# Altium integrated library Linx Technologies RF Module.IntLib: 34 symbols
Pins are listed as number, name and electrical type; pins without a type are passive.

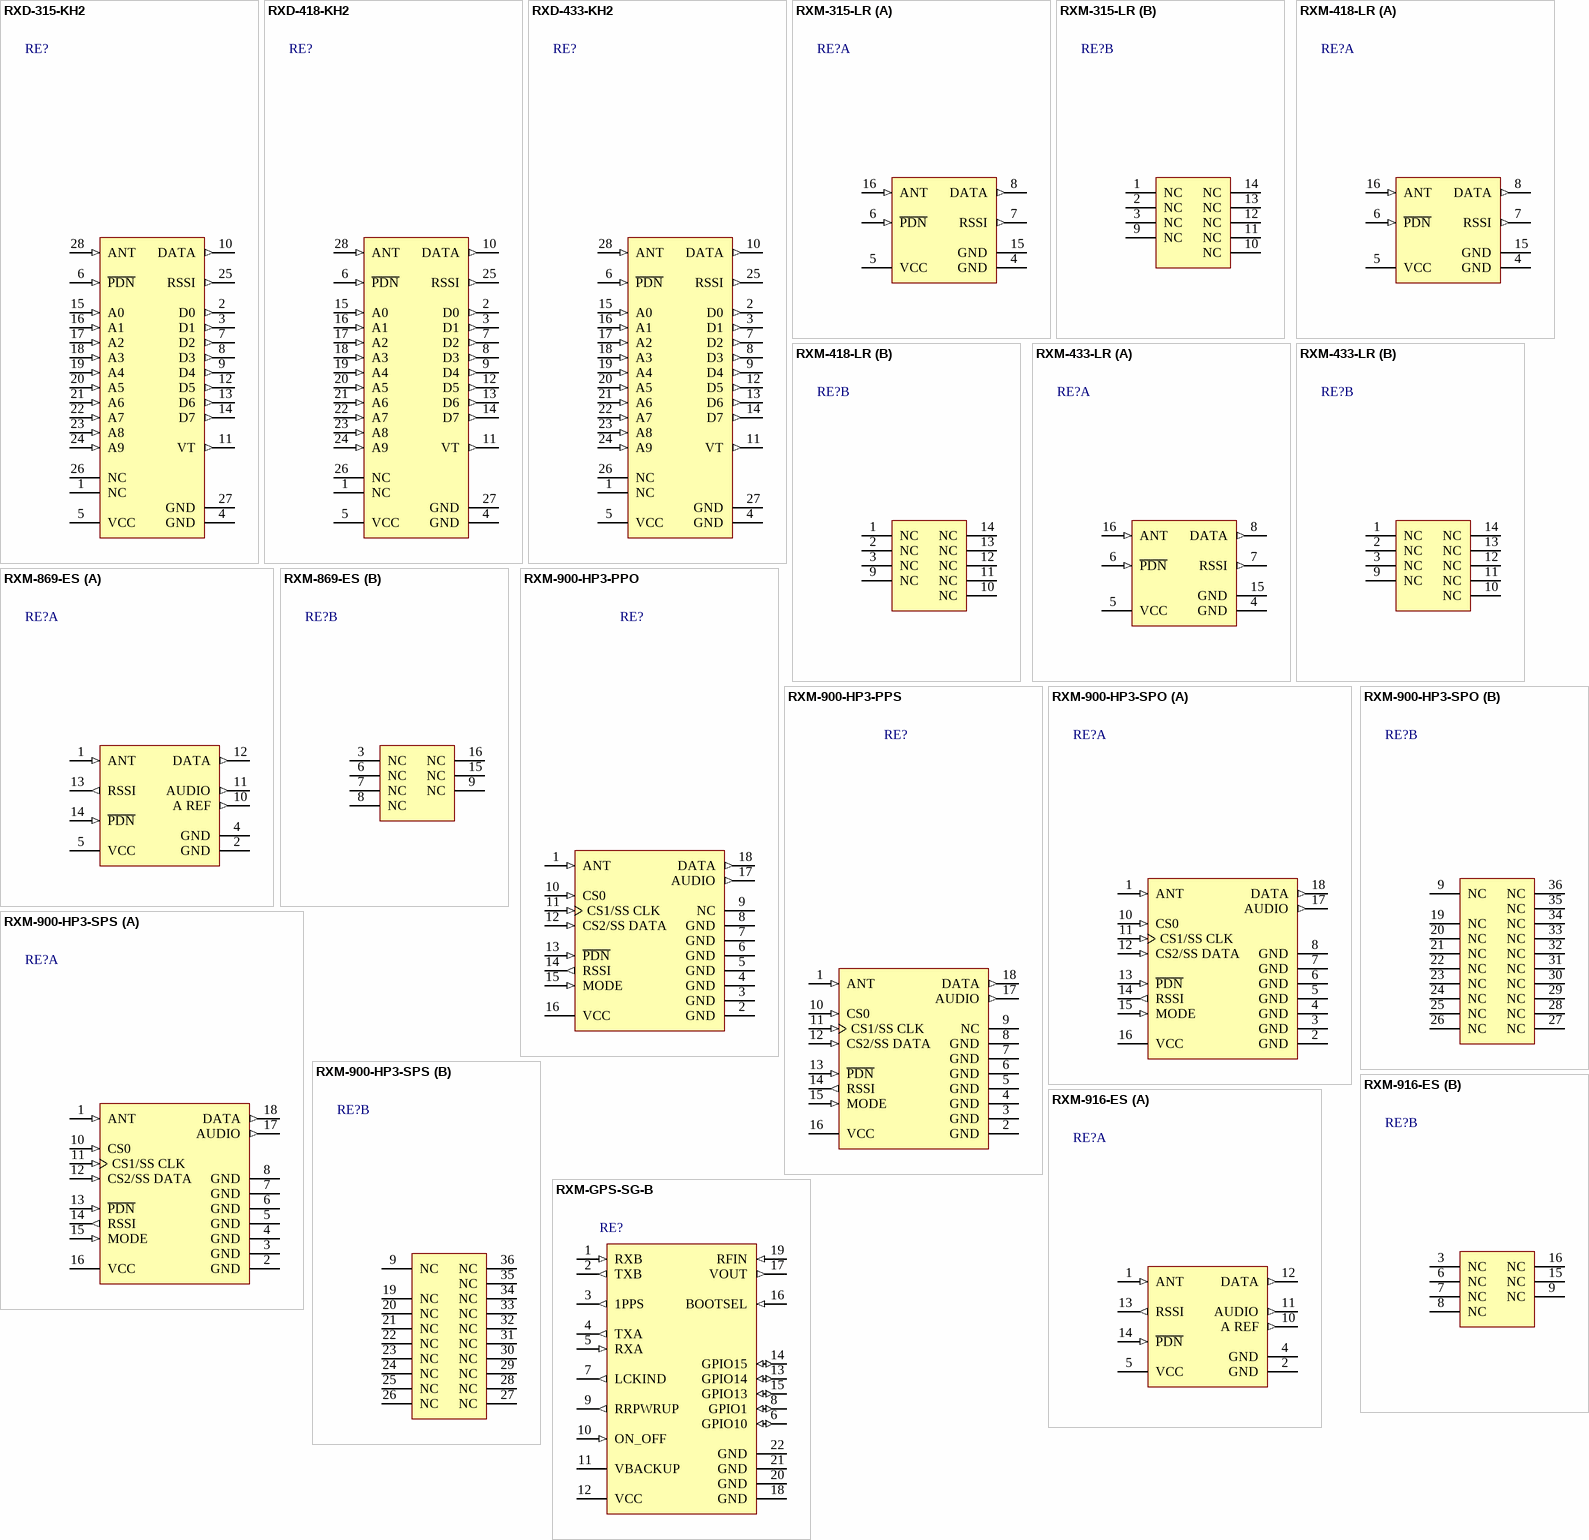
[diagram p0: symbols RXD-315-KH2 to RXM-GPS-SG-B]

## RXD-315-KH2
designator RE?
RF Receiver with Integrated Decoder Module, KH2 Series, 315MHz, SMD; PCB_Layout: Pads complies with manufacturer's recommendation.; DatasheetVersion: 28/01/2008; PackageVersion: 28/01/2008; PackageReference: LMD0.63-28; PackageDescription: RF Module, KH2 Series, SM, 28-Lead, 36.3 x 16 x 4.57 mm Body; ComponentLink1Description: Manufacturer URL; ComponentLink1URL: http://www.linxtechnologies.com/; ComponentLink2Description: Datasheet; ComponentLink2URL: http://www.linxtechnologies.com/Documents/RXD-xxx-KH2_Data_Guide.pdf
footprint LMD0.63-28 (LINX MODULE DIP, 0.63", 28 PINS)
footprint LMD0.63-28 (SMD 28-Lead, Body 36.3x16x4.57mm, Pitch 2.54mm)
pins: 1 NC, 2 D0 (out), 3 D1 (out), 4 GND (power), 5 VCC (power), 6 ~{PDN} (in), 7 D2 (out), 8 D3 (out), 9 D4 (out), 10 DATA (out), 11 VT (out), 12 D5 (out), 13 D6 (out), 14 D7 (out), 15 A0 (in), 16 A1 (in), 17 A2 (in), 18 A3 (in), 19 A4 (in), 20 A5 (in), 21 A6 (in), 22 A7 (in), 23 A8 (in), 24 A9 (in), 25 RSSI (out), 26 NC, 27 GND (power), 28 ANT (in)

## RXD-418-KH2
designator RE?
RF Receiver with Integrated Decoder Module, KH2 Series, 418MHz, SMD; PCB_Layout: Pads complies with manufacturer's recommendation.; DatasheetVersion: 28/01/2008; PackageVersion: 28/01/2008; PackageReference: LMD0.63-28; PackageDescription: RF Module, KH2 Series, SM, 28-Lead, 36.3 x 16 x 4.57 mm Body; ComponentLink1Description: Manufacturer URL; ComponentLink1URL: http://www.linxtechnologies.com/; ComponentLink2Description: Datasheet; ComponentLink2URL: http://www.linxtechnologies.com/Documents/RXD-xxx-KH2_Data_Guide.pdf
footprint LMD0.63-28 (LINX MODULE DIP, 0.63", 28 PINS)
footprint LMD0.63-28 (SMD 28-Lead, Body 36.3x16x4.57mm, Pitch 2.54mm)
pins: 1 NC, 2 D0 (out), 3 D1 (out), 4 GND (power), 5 VCC (power), 6 ~{PDN} (in), 7 D2 (out), 8 D3 (out), 9 D4 (out), 10 DATA (out), 11 VT (out), 12 D5 (out), 13 D6 (out), 14 D7 (out), 15 A0 (in), 16 A1 (in), 17 A2 (in), 18 A3 (in), 19 A4 (in), 20 A5 (in), 21 A6 (in), 22 A7 (in), 23 A8 (in), 24 A9 (in), 25 RSSI (out), 26 NC, 27 GND (power), 28 ANT (in)

## RXD-433-KH2
designator RE?
RF Receiver with Integrated Decoder Module, KH2 Series, 433MHz, SMD; PCB_Layout: Pads complies with manufacturer's recommendation.; DatasheetVersion: 28/01/2008; PackageVersion: 28/01/2008; PackageReference: LMD0.63-28; PackageDescription: RF Module, KH2 Series, SM, 28-Lead, 36.3 x 16 x 4.57 mm Body; ComponentLink1Description: Manufacturer URL; ComponentLink1URL: http://www.linxtechnologies.com/; ComponentLink2Description: Datasheet; ComponentLink2URL: http://www.linxtechnologies.com/Documents/RXD-xxx-KH2_Data_Guide.pdf
footprint LMD0.63-28 (LINX MODULE DIP, 0.63", 28 PINS)
footprint LMD0.63-28 (SMD 28-Lead, Body 36.3x16x4.57mm, Pitch 2.54mm)
pins: 1 NC, 2 D0 (out), 3 D1 (out), 4 GND (power), 5 VCC (power), 6 ~{PDN} (in), 7 D2 (out), 8 D3 (out), 9 D4 (out), 10 DATA (out), 11 VT (out), 12 D5 (out), 13 D6 (out), 14 D7 (out), 15 A0 (in), 16 A1 (in), 17 A2 (in), 18 A3 (in), 19 A4 (in), 20 A5 (in), 21 A6 (in), 22 A7 (in), 23 A8 (in), 24 A9 (in), 25 RSSI (out), 26 NC, 27 GND (power), 28 ANT (in)

## RXM-315-LR
designator RE?
RF Receiver Module, Long Range, LR Series, 315MHz, SMD; PCB_Layout: Pads complies with manufacturer's recommendation.; DatasheetVersion: 15/08/2008; PackageVersion: 15/08/2008; PackageReference: LMD0.63-16; PackageDescription: RF Module, ES Series, SM, 16-Lead, 20.63 x 16 x 3.18 mm Body; ComponentLink1Description: Manufacturer URL; ComponentLink1URL: http://www.linxtechnologies.com/; ComponentLink2Description: Datasheet; ComponentLink2URL: http://www.linxtechnologies.com/Documents/RXM-xxx-LR_Data_Guide.pdf
footprint LMD0.63-16 (LINX MODULE DIP, 0.63", 16 PINS)
footprint LMD0.63-16 (SMD 16-Lead, Body 20.63x16x3.18mm, Pitch 2.54mm)
part A pins: 4 GND (power), 5 VCC (power), 6 ~{PDN} (in), 7 RSSI (out), 8 DATA (out), 15 GND (power), 16 ANT (in)
part B pins: 1 NC, 2 NC, 3 NC, 9 NC, 10 NC, 11 NC, 12 NC, 13 NC, 14 NC

## RXM-418-LR
designator RE?
RF Receiver Module, Long Range, LR Series, 418MHz, SMD; PCB_Layout: Pads complies with manufacturer's recommendation.; DatasheetVersion: 15/08/2008; PackageVersion: 15/08/2008; PackageReference: LMD0.63-16; PackageDescription: RF Module, ES Series, SM, 16-Lead, 20.63 x 16 x 3.18 mm Body; ComponentLink1Description: Manufacturer URL; ComponentLink1URL: http://www.linxtechnologies.com/; ComponentLink2Description: Datasheet; ComponentLink2URL: http://www.linxtechnologies.com/Documents/RXM-xxx-LR_Data_Guide.pdf
footprint LMD0.63-16 (LINX MODULE DIP, 0.63", 16 PINS)
footprint LMD0.63-16 (SMD 16-Lead, Body 20.63x16x3.18mm, Pitch 2.54mm)
part A pins: 4 GND (power), 5 VCC (power), 6 ~{PDN} (in), 7 RSSI (out), 8 DATA (out), 15 GND (power), 16 ANT (in)
part B pins: 1 NC, 2 NC, 3 NC, 9 NC, 10 NC, 11 NC, 12 NC, 13 NC, 14 NC

## RXM-433-LR
designator RE?
RF Receiver Module, Long Range, LR Series, 433MHz, SMD; PCB_Layout: Pads complies with manufacturer's recommendation.; DatasheetVersion: 15/08/2008; PackageVersion: 15/08/2008; PackageReference: LMD0.63-16; PackageDescription: RF Module, ES Series, SM, 16-Lead, 20.63 x 16 x 3.18 mm Body; ComponentLink1Description: Manufacturer URL; ComponentLink1URL: http://www.linxtechnologies.com/; ComponentLink2Description: Datasheet; ComponentLink2URL: http://www.linxtechnologies.com/Documents/RXM-xxx-LR_Data_Guide.pdf
footprint LMD0.63-16 (LINX MODULE DIP, 0.63", 16 PINS)
footprint LMD0.63-16 (SMD 16-Lead, Body 20.63x16x3.18mm, Pitch 2.54mm)
part A pins: 4 GND (power), 5 VCC (power), 6 ~{PDN} (in), 7 RSSI (out), 8 DATA (out), 15 GND (power), 16 ANT (in)
part B pins: 1 NC, 2 NC, 3 NC, 9 NC, 10 NC, 11 NC, 12 NC, 13 NC, 14 NC

## RXM-869-ES
designator RE?
RF Receiver Module, Digital and Analog, ES Series, 869MHz, SMD; PCB_Layout: Pads complies with manufacturer's recommendation.; DatasheetVersion: 28/01/2008; PackageVersion: 28/01/2008; PackageReference: LMD0.63-16; PackageDescription: RF Module, ES Series, SM, 16-Lead, 20.63 x 16 x 3.18 mm Body; ComponentLink1Description: Manufacturer URL; ComponentLink1URL: http://www.linxtechnologies.com/; ComponentLink2Description: Datasheet; ComponentLink2URL: http://www.linxtechnologies.com/Documents/RXM-xxx-ES_Data_Guide.pdf
footprint LMD0.63-16 (LINX MODULE DIP, 0.63", 16 PINS)
footprint LMD0.63-16 (SMD 16-Lead, Body 20.63x16x3.18mm, Pitch 2.54mm)
part A pins: 1 ANT (in), 2 GND (power), 4 GND (power), 5 VCC (power), 10 A REF (out), 11 AUDIO (out), 12 DATA (out), 13 RSSI (out), 14 ~{PDN} (in)
part B pins: 3 NC, 6 NC, 7 NC, 8 NC, 9 NC, 15 NC, 16 NC

## RXM-900-HP3-PPO
designator RE?
Multiple Channel RF Receiver Module, HP3 Series, 8 Parallel Channels, SIP; PCB_Layout: Pads complies with manufacturer's recommendation.; DatasheetVersion: 28/01/2008; PackageVersion: 28/01/2008; PackageReference: SIP-18; PackageDescription: RF Module, HP3 Series, Thru-Hole, 18-Lead, 49.3 x 6.0 x 19.9 mm Body; ComponentLink1Description: Manufacturer URL; ComponentLink1URL: http://www.linxtechnologies.com/; ComponentLink2Description: Datasheet; ComponentLink2URL: http://www.linxtechnologies.com/Documents/RXM-900-HP3-xxx_Data_Guide.pdf
footprint SIP-18 (18 PIN SIP HEADER)
footprint SIP-18 (SIP, 18-Lead, 49.3x6.0x19.9mm Body, Pitch 2.54mm)
pins: 1 ANT (in), 2 GND (power), 3 GND (power), 4 GND (power), 5 GND (power), 6 GND (power), 7 GND (power), 8 GND (power), 9 NC, 10 CS0 (in), 11 CS1/SS CLK (in), 12 CS2/SS DATA (in), 13 ~{PDN} (in), 14 RSSI (out), 15 MODE (in), 16 VCC (power), 17 AUDIO (out), 18 DATA (out)

## RXM-900-HP3-PPS
designator RE?
Multiple Channel RF Receiver Module, HP3 Series, 8 Parallel/100 Serial Channels, SIP; PCB_Layout: Pads complies with manufacturer's recommendation.; DatasheetVersion: 28/01/2008; PackageVersion: 28/01/2008; PackageReference: SIP-18; PackageDescription: RF Module, HP3 Series, Thru-Hole, 18-Lead, 49.3 x 6.0 x 19.9 mm Body; ComponentLink1Description: Manufacturer URL; ComponentLink1URL: http://www.linxtechnologies.com/; ComponentLink2Description: Datasheet; ComponentLink2URL: http://www.linxtechnologies.com/Documents/RXM-900-HP3-xxx_Data_Guide.pdf
footprint SIP-18 (18 PIN SIP HEADER)
footprint SIP-18 (SIP, 18-Lead, 49.3x6.0x19.9mm Body, Pitch 2.54mm)
pins: 1 ANT (in), 2 GND (power), 3 GND (power), 4 GND (power), 5 GND (power), 6 GND (power), 7 GND (power), 8 GND (power), 9 NC, 10 CS0 (in), 11 CS1/SS CLK (in), 12 CS2/SS DATA (in), 13 ~{PDN} (in), 14 RSSI (out), 15 MODE (in), 16 VCC (power), 17 AUDIO (out), 18 DATA (out)

## RXM-900-HP3-SPO
designator RE?
Multiple Channel RF Receiver Module, HP3 Series, 8 Parallel Channels, SMD; PCB_Layout: Pads complies with manufacturer's recommendation.; DatasheetVersion: 28/01/2008; PackageVersion: 28/01/2008; PackageReference: LMD0.75-36; PackageDescription: RF Module, HP3 Series, SM, 36-Lead, 49.6 x 19.1 x 4.9 mm Body; ComponentLink1Description: Manufacturer URL; ComponentLink1URL: http://www.linxtechnologies.com/; ComponentLink2Description: Datasheet; ComponentLink2URL: http://www.linxtechnologies.com/Documents/RXM-900-HP3-xxx_Data_Guide.pdf
footprint LMD0.75-36 (LINX MODULE DIP, 0.75", 36 PINS)
footprint LMD0.75-36 (SMD, 36-Lead, 49.6x19.1x4.9mm Body, Pitch 2.54mm)
part A pins: 1 ANT (in), 2 GND (power), 3 GND (power), 4 GND (power), 5 GND (power), 6 GND (power), 7 GND (power), 8 GND (power), 10 CS0 (in), 11 CS1/SS CLK (in), 12 CS2/SS DATA (in), 13 ~{PDN} (in), 14 RSSI (out), 15 MODE (in), 16 VCC (power), 17 AUDIO (out), 18 DATA (out)
part B pins: 9 NC, 19 NC, 20 NC, 21 NC, 22 NC, 23 NC, 24 NC, 25 NC, 26 NC, 27 NC, 28 NC, 29 NC, 30 NC, 31 NC, 32 NC, 33 NC, 34 NC, 35 NC, 36 NC

## RXM-900-HP3-SPS
designator RE?
Multiple Channel RF Receiver Module, HP3 Series, 8 Parallel/100 Serial Channels, SMD; PCB_Layout: Pads complies with manufacturer's recommendation.; DatasheetVersion: 28/01/2008; PackageVersion: 28/01/2008; PackageReference: LMD0.75-36; PackageDescription: RF Module, HP3 Series, SM, 36-Lead, 49.6 x 19.1 x 4.9 mm Body; ComponentLink1Description: Manufacturer URL; ComponentLink1URL: http://www.linxtechnologies.com/; ComponentLink2Description: Datasheet; ComponentLink2URL: http://www.linxtechnologies.com/Documents/RXM-900-HP3-xxx_Data_Guide.pdf
footprint LMD0.75-36 (LINX MODULE DIP, 0.75", 36 PINS)
footprint LMD0.75-36 (SMD, 36-Lead, 49.6x19.1x4.9mm Body, Pitch 2.54mm)
part A pins: 1 ANT (in), 2 GND (power), 3 GND (power), 4 GND (power), 5 GND (power), 6 GND (power), 7 GND (power), 8 GND (power), 10 CS0 (in), 11 CS1/SS CLK (in), 12 CS2/SS DATA (in), 13 ~{PDN} (in), 14 RSSI (out), 15 MODE (in), 16 VCC (power), 17 AUDIO (out), 18 DATA (out)
part B pins: 9 NC, 19 NC, 20 NC, 21 NC, 22 NC, 23 NC, 24 NC, 25 NC, 26 NC, 27 NC, 28 NC, 29 NC, 30 NC, 31 NC, 32 NC, 33 NC, 34 NC, 35 NC, 36 NC

## RXM-916-ES
designator RE?
RF Receiver Module, Digital and Analog, ES Series, 916MHz, SMD; PCB_Layout: Pads complies with manufacturer's recommendation.; DatasheetVersion: 28/01/2008; PackageVersion: 28/01/2008; PackageReference: LMD0.63-16; PackageDescription: RF Module, ES Series, SM, 16-Lead, 20.63 x 16 x 3.18 mm Body; ComponentLink1Description: Manufacturer URL; ComponentLink1URL: http://www.linxtechnologies.com/; ComponentLink2Description: Datasheet; ComponentLink2URL: http://www.linxtechnologies.com/Documents/RXM-xxx-ES_Data_Guide.pdf
footprint LMD0.63-16 (LINX MODULE DIP, 0.63", 16 PINS)
footprint LMD0.63-16 (SMD 16-Lead, Body 20.63x16x3.18mm, Pitch 2.54mm)
part A pins: 1 ANT (in), 2 GND (power), 4 GND (power), 5 VCC (power), 10 A REF (out), 11 AUDIO (out), 12 DATA (out), 13 RSSI (out), 14 ~{PDN} (in)
part B pins: 3 NC, 6 NC, 7 NC, 8 NC, 9 NC, 15 NC, 16 NC

## RXM-GPS-SG-B
designator RE?
High-Performance GPS Receiver Module, SG Series, SMD, Bulk; PCB_Layout: Complies with manufacturer's recommendation.; DatasheetVersion: 28/06/2010; PackageVersion: 28/06/2010; PackageReference: RXM-GPS-SG; PackageDescription: RF Module, SG Series, SM, 22-Lead, 15 x 13 x 2.2 mm Body; ComponentLink1Description: Manufacturer URL; ComponentLink1URL: http://www.linxtechnologies.com/; ComponentLink2Description: Datasheet; ComponentLink2URL: http://www.linxtechnologies.com/Documents/RXM-GPS-SG_Data_Guide.pdf
footprint RXM-GPS-SG (SG SERIES GPS RECEIVER)
footprint RXM-GPS-SG (SMD 22-Lead, Body 15x13x2.2mm, Pitch 1.27mm)
pins: 1 RXB (in), 2 TXB (out), 3 1PPS (out), 4 TXA (out), 5 RXA (in), 6 GPIO10 (io), 7 LCKIND (out), 8 GPIO1 (io), 9 RRPWRUP (out), 10 ON_OFF (in), 11 VBACKUP (power), 12 VCC (power), 13 GPIO14 (io), 14 GPIO15 (io), 15 GPIO13 (io), 16 BOOTSEL (in), 17 VOUT (out), 18 GND, 19 RFIN (in), 20 GND (power), 21 GND (power), 22 GND (power)

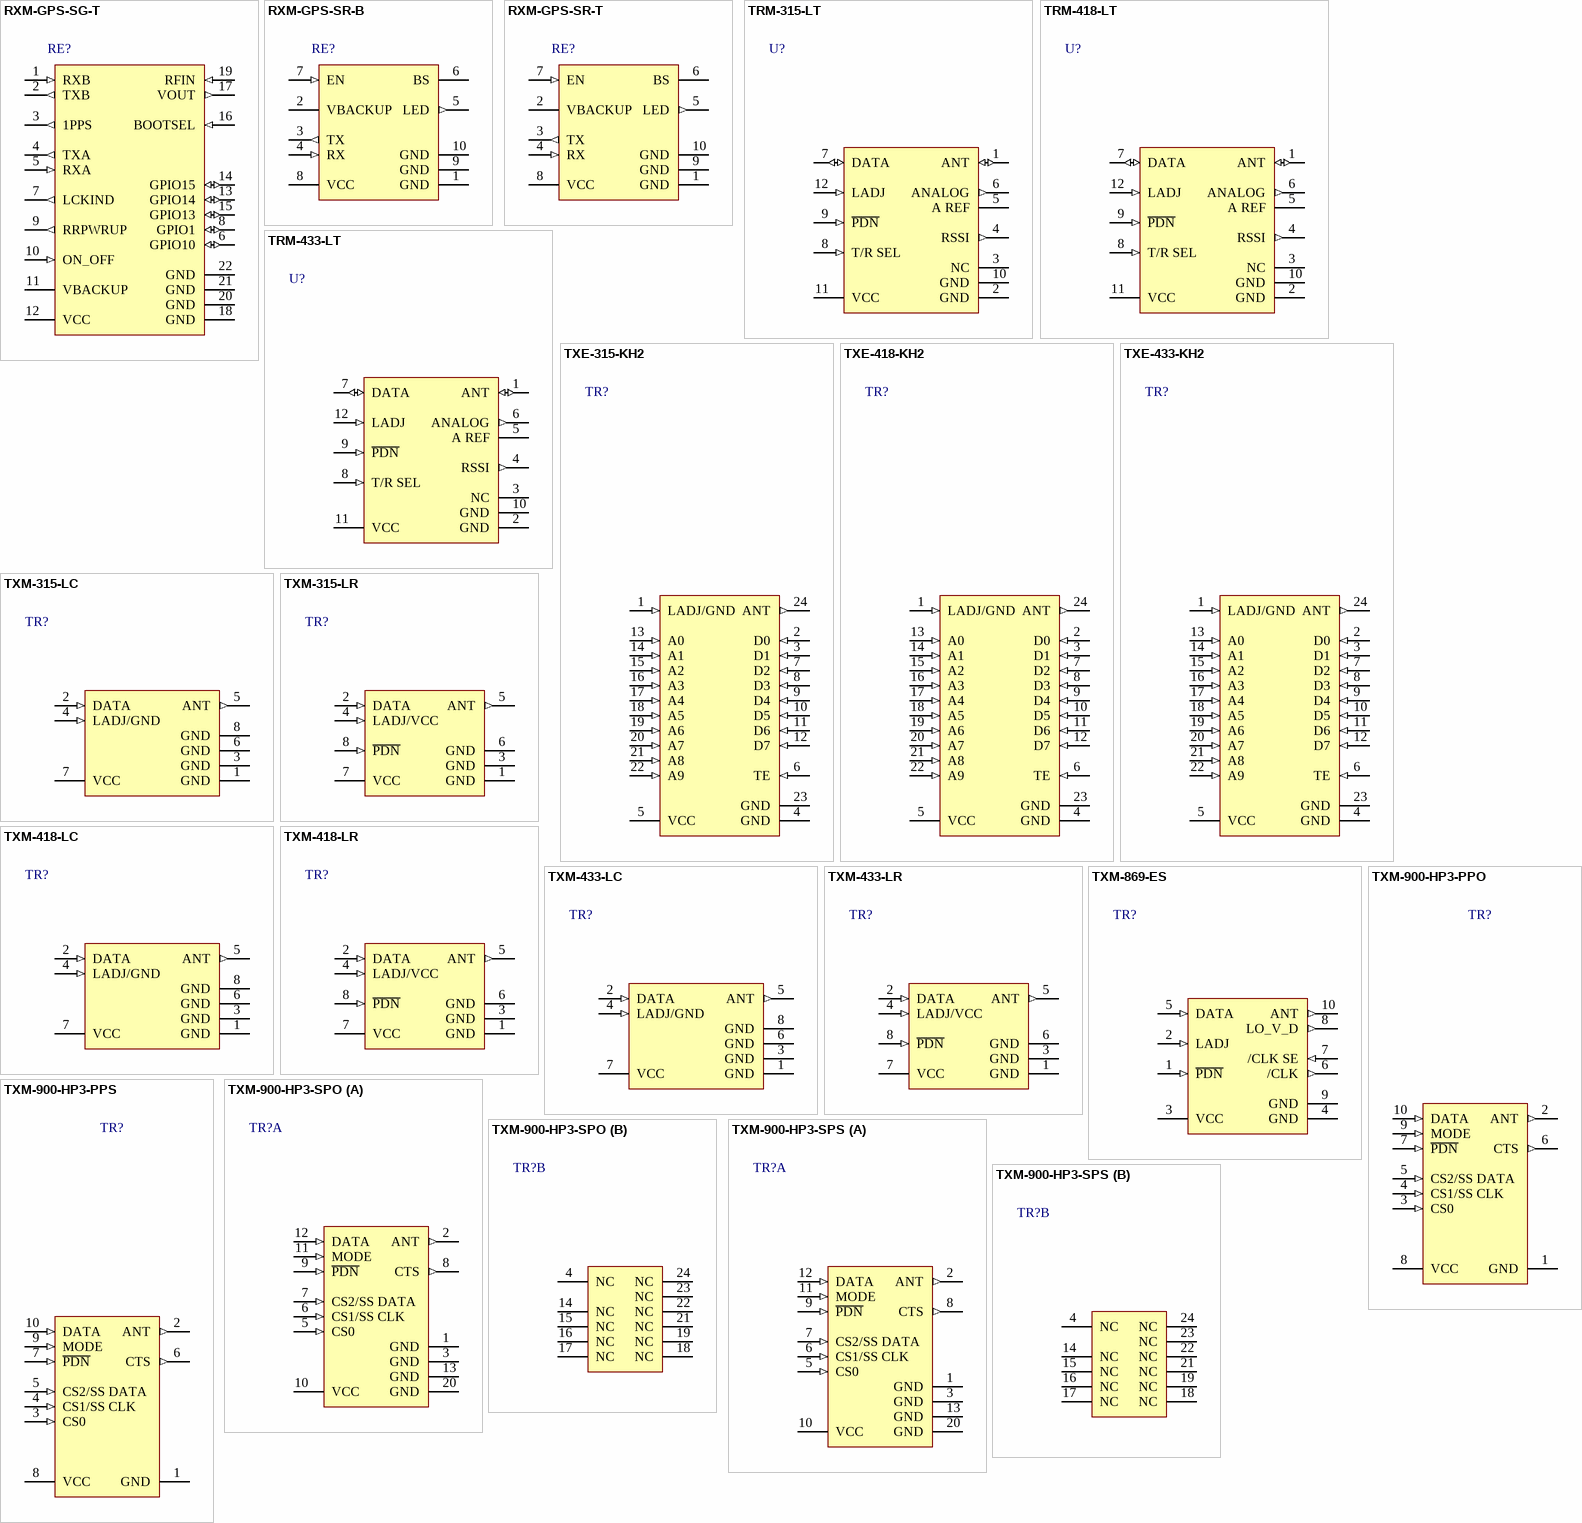
[diagram p1: symbols RXM-GPS-SG-T to TXM-900-HP3-SPS]

## RXM-GPS-SG-T
designator RE?
High-Performance GPS Receiver Module, SG Series, SMD, Tape and Reel; PCB_Layout: Complies with manufacturer's recommendation.; DatasheetVersion: 28/06/2010; PackageVersion: 28/06/2010; PackageReference: RXM-GPS-SG; PackageDescription: RF Module, SG Series, SM, 22-Lead, 15 x 13 x 2.2 mm Body; ComponentLink1Description: Manufacturer URL; ComponentLink1URL: http://www.linxtechnologies.com/; ComponentLink2Description: Datasheet; ComponentLink2URL: http://www.linxtechnologies.com/Documents/RXM-GPS-SG_Data_Guide.pdf
footprint RXM-GPS-SG (SG SERIES GPS RECEIVER)
footprint RXM-GPS-SG (SMD 22-Lead, Body 15x13x2.2mm, Pitch 1.27mm)
pins: 1 RXB (in), 2 TXB (out), 3 1PPS (out), 4 TXA (out), 5 RXA (in), 6 GPIO10 (io), 7 LCKIND (out), 8 GPIO1 (io), 9 RRPWRUP (out), 10 ON_OFF (in), 11 VBACKUP (power), 12 VCC (power), 13 GPIO14 (io), 14 GPIO15 (io), 15 GPIO13 (io), 16 BOOTSEL (in), 17 VOUT (out), 18 GND, 19 RFIN (in), 20 GND (power), 21 GND (power), 22 GND (power)

## RXM-GPS-SR-B
designator RE?
High-Performance GPS Receiver Module, Integral Antenna, SR Series, SMD, Bulk; Note1: No traces or copper under the module on the same layer as the module; DatasheetVersion: 20/07/2010; PackageVersion: 20/07/2010; PackageReference: RXM-GPS-SR; PackageDescription: GPS Module with Antenna, SR Series, SM, 10-Lead, 25 x 12.4 x 2.2 mm Body; ComponentLink1Description: Manufacturer URL; ComponentLink1URL: http://www.linxtechnologies.com/; ComponentLink2Description: Datasheet; ComponentLink2URL: http://www.linxtechnologies.com/Documents/RXM-GPS-SR_Data_Guide.pdf
footprint RXM-GPS-SR (SR SERIES GPS MODULE)
footprint RXM-GPS-SR (SMD 10-Lead, Body 25x12.4x2.2mm, Pitch 2.2mm, plus On-Board Antenna)
pins: 1 GND (power), 2 VBACKUP (power), 3 TX (out), 4 RX (in), 5 LED (out), 6 BS, 7 EN (in), 8 VCC (power), 9 GND (power), 10 GND (power)

## RXM-GPS-SR-T
designator RE?
High-Performance GPS Receiver Module, Integral Antenna, SR Series, SMD, Tape and Reel; Note1: No traces or copper under the module on the same layer as the module; DatasheetVersion: 20/07/2010; PackageVersion: 20/07/2010; PackageReference: RXM-GPS-SR; PackageDescription: GPS Module with Antenna, SR Series, SM, 10-Lead, 25 x 12.4 x 2.2 mm Body; ComponentLink1Description: Manufacturer URL; ComponentLink1URL: http://www.linxtechnologies.com/; ComponentLink2Description: Datasheet; ComponentLink2URL: http://www.linxtechnologies.com/Documents/RXM-GPS-SR_Data_Guide.pdf
footprint RXM-GPS-SR (SR SERIES GPS MODULE)
footprint RXM-GPS-SR (SMD 10-Lead, Body 25x12.4x2.2mm, Pitch 2.2mm, plus On-Board Antenna)
pins: 1 GND (power), 2 VBACKUP (power), 3 TX (out), 4 RX (in), 5 LED (out), 6 BS, 7 EN (in), 8 VCC (power), 9 GND (power), 10 GND (power)

## TRM-315-LT
designator U?
Long Range RF Transceiver Module, LT Series, 315MHz, SMD; PCB_Layout: Pads complies with manufacturer's recommendation.; DatasheetVersion: 23/03/2010; PackageVersion: 23/03/2010; PackageReference: LMD0.63-12; PackageDescription: RF Module, LT Series, SM, 12-Lead, 15.73 x 16.0 x 3.18 mm Body; ComponentLink1Description: Manufacturer URL; ComponentLink1URL: http://www.linxtechnologies.com/; ComponentLink2Description: Datasheet; ComponentLink2URL: http://www.linxtechnologies.com/Documents/TRM-xxx-LT_Data_Guide.pdf
footprint LMD0.63-12 (LINX MODULE DIP, 0.63", 12 PINS)
footprint LMD0.63-12 (SMD 12-Lead, Body 15.73x16.0x3.18mm, Pitch 2.54mm)
pins: 1 ANT (io), 2 GND (power), 3 NC, 4 RSSI (out), 5 A REF, 6 ANALOG (out), 7 DATA (io), 8 T/R SEL (in), 9 ~{PDN} (in), 10 GND (power), 11 VCC (power), 12 LADJ (in)

## TRM-418-LT
designator U?
Long Range RF Transceiver Module, LT Series, 418MHz, SMD; PCB_Layout: Pads complies with manufacturer's recommendation.; DatasheetVersion: 23/03/2010; PackageVersion: 23/03/2010; PackageReference: LMD0.63-12; PackageDescription: RF Module, LT Series, SM, 12-Lead, 15.73 x 16.0 x 3.18 mm Body; ComponentLink1Description: Manufacturer URL; ComponentLink1URL: http://www.linxtechnologies.com/; ComponentLink2Description: Datasheet; ComponentLink2URL: http://www.linxtechnologies.com/Documents/TRM-xxx-LT_Data_Guide.pdf
footprint LMD0.63-12 (LINX MODULE DIP, 0.63", 12 PINS)
footprint LMD0.63-12 (SMD 12-Lead, Body 15.73x16.0x3.18mm, Pitch 2.54mm)
pins: 1 ANT (io), 2 GND (power), 3 NC, 4 RSSI (out), 5 A REF, 6 ANALOG (out), 7 DATA (io), 8 T/R SEL (in), 9 ~{PDN} (in), 10 GND (power), 11 VCC (power), 12 LADJ (in)

## TRM-433-LT
designator U?
Long Range RF Transceiver Module, LT Series, 433MHz, SMD; PCB_Layout: Pads complies with manufacturer's recommendation.; DatasheetVersion: 23/03/2010; PackageVersion: 23/03/2010; PackageReference: LMD0.63-12; PackageDescription: RF Module, LT Series, SM, 12-Lead, 15.73 x 16.0 x 3.18 mm Body; ComponentLink1Description: Manufacturer URL; ComponentLink1URL: http://www.linxtechnologies.com/; ComponentLink2Description: Datasheet; ComponentLink2URL: http://www.linxtechnologies.com/Documents/TRM-xxx-LT_Data_Guide.pdf
footprint LMD0.63-12 (LINX MODULE DIP, 0.63", 12 PINS)
footprint LMD0.63-12 (SMD 12-Lead, Body 15.73x16.0x3.18mm, Pitch 2.54mm)
pins: 1 ANT (io), 2 GND (power), 3 NC, 4 RSSI (out), 5 A REF, 6 ANALOG (out), 7 DATA (io), 8 T/R SEL (in), 9 ~{PDN} (in), 10 GND (power), 11 VCC (power), 12 LADJ (in)

## TXE-315-KH2
designator TR?
RF Transmitter with Integrated Encoder Module, KH2 Series, 315MHz, SMD; PCB_Layout: Pads complies with manufacturer's recommendation.; DatasheetVersion: 28/01/2008; PackageVersion: 28/01/2008; PackageReference: LMD0.63-24; PackageDescription: RF Module, KH2 Series, SM, 24-Lead, 31 x 16 x 4.57 mm Body; ComponentLink1Description: Manufacturer URL; ComponentLink1URL: http://www.linxtechnologies.com/; ComponentLink2Description: Datasheet; ComponentLink2URL: http://www.linxtechnologies.com/Documents/TXE-xxx-KH2_Data_Guide.pdf
footprint LMD0.63-24 (LINX MODULE DIP, 0.63", 24 PINS)
footprint LMD0.63-24 (SMD 24-Lead, Body 31x16x4.57mm, Pitch 2.54mm)
pins: 1 LADJ/GND (in), 2 D0 (in), 3 D1 (in), 4 GND (power), 5 VCC (power), 6 TE (in), 7 D2 (in), 8 D3 (in), 9 D4 (in), 10 D5 (in), 11 D6 (in), 12 D7 (in), 13 A0 (in), 14 A1 (in), 15 A2 (in), 16 A3 (in), 17 A4 (in), 18 A5 (in), 19 A6 (in), 20 A7 (in), 21 A8 (in), 22 A9 (in), 23 GND (power), 24 ANT (out)

## TXE-418-KH2
designator TR?
RF Transmitter with Integrated Encoder Module, KH2 Series, 418MHz, SMD; PCB_Layout: Pads complies with manufacturer's recommendation.; DatasheetVersion: 28/01/2008; PackageVersion: 28/01/2008; PackageReference: LMD0.63-24; PackageDescription: RF Module, KH2 Series, SM, 24-Lead, 31 x 16 x 4.57 mm Body; ComponentLink1Description: Manufacturer URL; ComponentLink1URL: http://www.linxtechnologies.com/; ComponentLink2Description: Datasheet; ComponentLink2URL: http://www.linxtechnologies.com/Documents/TXE-xxx-KH2_Data_Guide.pdf
footprint LMD0.63-24 (LINX MODULE DIP, 0.63", 24 PINS)
footprint LMD0.63-24 (SMD 24-Lead, Body 31x16x4.57mm, Pitch 2.54mm)
pins: 1 LADJ/GND (in), 2 D0 (in), 3 D1 (in), 4 GND (power), 5 VCC (power), 6 TE (in), 7 D2 (in), 8 D3 (in), 9 D4 (in), 10 D5 (in), 11 D6 (in), 12 D7 (in), 13 A0 (in), 14 A1 (in), 15 A2 (in), 16 A3 (in), 17 A4 (in), 18 A5 (in), 19 A6 (in), 20 A7 (in), 21 A8 (in), 22 A9 (in), 23 GND (power), 24 ANT (out)

## TXE-433-KH2
designator TR?
RF Transmitter with Integrated Encoder Module, KH2 Series, 433MHz, SMD; PCB_Layout: Pads complies with manufacturer's recommendation.; DatasheetVersion: 28/01/2008; PackageVersion: 28/01/2008; PackageReference: LMD0.63-24; PackageDescription: RF Module, KH2 Series, SM, 24-Lead, 31 x 16 x 4.57 mm Body; ComponentLink1Description: Manufacturer URL; ComponentLink1URL: http://www.linxtechnologies.com/; ComponentLink2Description: Datasheet; ComponentLink2URL: http://www.linxtechnologies.com/Documents/TXE-xxx-KH2_Data_Guide.pdf
footprint LMD0.63-24 (LINX MODULE DIP, 0.63", 24 PINS)
footprint LMD0.63-24 (SMD 24-Lead, Body 31x16x4.57mm, Pitch 2.54mm)
pins: 1 LADJ/GND (in), 2 D0 (in), 3 D1 (in), 4 GND (power), 5 VCC (power), 6 TE (in), 7 D2 (in), 8 D3 (in), 9 D4 (in), 10 D5 (in), 11 D6 (in), 12 D7 (in), 13 A0 (in), 14 A1 (in), 15 A2 (in), 16 A3 (in), 17 A4 (in), 18 A5 (in), 19 A6 (in), 20 A7 (in), 21 A8 (in), 22 A9 (in), 23 GND (power), 24 ANT (out)

## TXM-315-LC
designator TR?
Low Cost RF Transmitter Module, LC Series, 315MHz, SMD; PCB_Layout: Pads complies with manufacturer's recommendation.; DatasheetVersion: 24/02/2009; PackageVersion: 24/02/2009; PackageReference: LMD0.36-8-S; PackageDescription: RF Module, LC Series, SM, 8-Lead, 12.7 x 9.15 x 3.3 mm Body; ComponentLink1Description: Manufacturer URL; ComponentLink1URL: http://www.linxtechnologies.com/; ComponentLink2Description: Datasheet; ComponentLink2URL: http://www.linxtechnologies.com/Documents/TXM-xxx-LC_Data_Guide.pdf
footprint LMD0.36-8-S (LINX MODULE DIP, 0.36", 8 PINS)
footprint LMD0.36-8-S (SMD 8-Lead, Body 12.7x9.15x3.3mm, Pitch 2.54mm)
pins: 1 GND (power), 2 DATA (in), 3 GND (power), 4 LADJ/GND (in), 5 ANT (out), 6 GND (power), 7 VCC (power), 8 GND (power)

## TXM-315-LR
designator TR?
Low Cost RF Transmitter Module, LR Series, 315MHz, SMD; PCB_Layout: Pads complies with manufacturer's recommendation.; DatasheetVersion: 4/03/2010; PackageVersion: 4/03/2010; PackageReference: LMD0.36-8-S; PackageDescription: RF Module, LR Series, SM, 8-Lead, 12.7 x 9.15 x 3.3 mm Body; ComponentLink1Description: Manufacturer URL; ComponentLink1URL: http://www.linxtechnologies.com/; ComponentLink2Description: Datasheet; ComponentLink2URL: http://www.linxtechnologies.com/Documents/TXM-xxx-LR_Data_Guide.pdf
footprint LMD0.36-8-S (LINX MODULE DIP, 0.36", 8 PINS)
footprint LMD0.36-8-S (SMD 8-Lead, Body 12.7x9.15x3.3mm, Pitch 2.54mm)
pins: 1 GND (power), 2 DATA (in), 3 GND (power), 4 LADJ/VCC (in), 5 ANT (out), 6 GND (power), 7 VCC (power), 8 ~{PDN} (in)

## TXM-418-LC
designator TR?
Low Cost RF Transmitter Module, LC Series, 418MHz, SMD; PCB_Layout: Pads complies with manufacturer's recommendation.; DatasheetVersion: 24/02/2009; PackageVersion: 24/02/2009; PackageReference: LMD0.36-8-S; PackageDescription: RF Module, LC Series, SM, 8-Lead, 12.7 x 9.15 x 3.3 mm Body; ComponentLink1Description: Manufacturer URL; ComponentLink1URL: http://www.linxtechnologies.com/; ComponentLink2Description: Datasheet; ComponentLink2URL: http://www.linxtechnologies.com/Documents/TXM-xxx-LC_Data_Guide.pdf
footprint LMD0.36-8-S (LINX MODULE DIP, 0.36", 8 PINS)
footprint LMD0.36-8-S (SMD 8-Lead, Body 12.7x9.15x3.3mm, Pitch 2.54mm)
pins: 1 GND (power), 2 DATA (in), 3 GND (power), 4 LADJ/GND (in), 5 ANT (out), 6 GND (power), 7 VCC (power), 8 GND (power)

## TXM-418-LR
designator TR?
Low Cost RF Transmitter Module, LR Series, 418MHz, SMD; PCB_Layout: Pads complies with manufacturer's recommendation.; DatasheetVersion: 4/03/2010; PackageVersion: 4/03/2010; PackageReference: LMD0.36-8-S; PackageDescription: RF Module, LR Series, SM, 8-Lead, 12.7 x 9.15 x 3.3 mm Body; ComponentLink1Description: Manufacturer URL; ComponentLink1URL: http://www.linxtechnologies.com/; ComponentLink2Description: Datasheet; ComponentLink2URL: http://www.linxtechnologies.com/Documents/TXM-xxx-LR_Data_Guide.pdf
footprint LMD0.36-8-S (LINX MODULE DIP, 0.36", 8 PINS)
footprint LMD0.36-8-S (SMD 8-Lead, Body 12.7x9.15x3.3mm, Pitch 2.54mm)
pins: 1 GND (power), 2 DATA (in), 3 GND (power), 4 LADJ/VCC (in), 5 ANT (out), 6 GND (power), 7 VCC (power), 8 ~{PDN} (in)

## TXM-433-LC
designator TR?
Low Cost RF Transmitter Module, LC Series, 433MHz, SMD; PCB_Layout: Pads complies with manufacturer's recommendation.; DatasheetVersion: 24/02/2009; PackageVersion: 24/02/2009; PackageReference: LMD0.36-8-S; PackageDescription: RF Module, LC Series, SM, 8-Lead, 12.7 x 9.15 x 3.3 mm Body; ComponentLink1Description: Manufacturer URL; ComponentLink1URL: http://www.linxtechnologies.com/; ComponentLink2Description: Datasheet; ComponentLink2URL: http://www.linxtechnologies.com/Documents/TXM-xxx-LC_Data_Guide.pdf
footprint LMD0.36-8-S (LINX MODULE DIP, 0.36", 8 PINS)
footprint LMD0.36-8-S (SMD 8-Lead, Body 12.7x9.15x3.3mm, Pitch 2.54mm)
pins: 1 GND (power), 2 DATA (in), 3 GND (power), 4 LADJ/GND (in), 5 ANT (out), 6 GND (power), 7 VCC (power), 8 GND (power)

## TXM-433-LR
designator TR?
Low Cost RF Transmitter Module, LR Series, 433MHz, SMD; PCB_Layout: Pads complies with manufacturer's recommendation.; DatasheetVersion: 4/03/2010; PackageVersion: 4/03/2010; PackageReference: LMD0.36-8-S; PackageDescription: RF Module, LR Series, SM, 8-Lead, 12.7 x 9.15 x 3.3 mm Body; ComponentLink1Description: Manufacturer URL; ComponentLink1URL: http://www.linxtechnologies.com/; ComponentLink2Description: Datasheet; ComponentLink2URL: http://www.linxtechnologies.com/Documents/TXM-xxx-LR_Data_Guide.pdf
footprint LMD0.36-8-S (LINX MODULE DIP, 0.36", 8 PINS)
footprint LMD0.36-8-S (SMD 8-Lead, Body 12.7x9.15x3.3mm, Pitch 2.54mm)
pins: 1 GND (power), 2 DATA (in), 3 GND (power), 4 LADJ/VCC (in), 5 ANT (out), 6 GND (power), 7 VCC (power), 8 ~{PDN} (in)

## TXM-869-ES
designator TR?
RF Transmitter Module, Digital and Analog, ES Series, 869MHz, SMD; PCB_Layout: Pads complies with manufacturer's recommendation.; DatasheetVersion: 28/01/2008; PackageVersion: 28/01/2008; PackageReference: LMD0.63-10; PackageDescription: RF Module, ES Series, SM, 10-Lead, 12.95 x 16 x 3.18 mm Body; ComponentLink1Description: Manufacturer URL; ComponentLink1URL: http://www.linxtechnologies.com/; ComponentLink2Description: Datasheet; ComponentLink2URL: http://www.linxtechnologies.com/Documents/TXM-xxx-ES_Data_Guide.pdf
footprint LMD0.63-10 (LINX MODULE DIP, 0.63", 10 PINS)
footprint LMD0.63-10 (SMD 10-Lead, Body 12.95x16x3.18mm, Pitch 2.54mm)
pins: 1 ~{PDN} (in), 2 LADJ (in), 3 VCC (power), 4 GND (power), 5 DATA (in), 6 /CLK (out), 7 /CLK SE (in), 8 LO_V_D (out), 9 GND (power), 10 ANT (out)

## TXM-900-HP3-PPO
designator TR?
Multiple Channel RF Transmitter Module, HP3 Series, 8 Parallel Channels, SIP; PCB_Layout: Pads complies with manufacturer's recommendation.; DatasheetVersion: 28/01/2008; PackageVersion: 28/01/2008; PackageReference: TXM-XXX-HP3-P; PackageDescription: RF Module, HP3 Series, Thru-Hole, 10-Lead, 32.77 x 4.52 x 17.27 mm Body; ComponentLink1Description: Manufacturer URL; ComponentLink1URL: http://www.linxtechnologies.com/; ComponentLink2Description: Datasheet; ComponentLink2URL: http://www.linxtechnologies.com/Documents/TXM-900-HP3-xxx_Data_Guide.pdf
footprint TXM-XXX-HP3-P (TXM-900-HP3-PPx)
footprint TXM-XXX-HP3-P (SIP 10-Lead, Body 32.77x4.52x17.27mm, Pitch 2.54mm)
pins: 1 GND (power), 2 ANT (out), 3 CS0 (in), 4 CS1/SS CLK (in), 5 CS2/SS DATA (in), 6 CTS (out), 7 ~{PDN} (in), 8 VCC (power), 9 MODE (in), 10 DATA (in)

## TXM-900-HP3-PPS
designator TR?
Multiple Channel RF Transmitter Module, HP3 Series, 8 Parallel/100 Serial Channels, SIP; PCB_Layout: Pads complies with manufacturer's recommendation.; DatasheetVersion: 28/01/2008; PackageVersion: 28/01/2008; PackageReference: TXM-XXX-HP3-P; PackageDescription: RF Module, HP3 Series, Thru-Hole, 10-Lead, 32.77 x 4.52 x 17.27 mm Body; ComponentLink1Description: Manufacturer URL; ComponentLink1URL: http://www.linxtechnologies.com/; ComponentLink2Description: Datasheet; ComponentLink2URL: http://www.linxtechnologies.com/Documents/TXM-900-HP3-xxx_Data_Guide.pdf
footprint TXM-XXX-HP3-P (TXM-900-HP3-PPx)
footprint TXM-XXX-HP3-P (SIP 10-Lead, Body 32.77x4.52x17.27mm, Pitch 2.54mm)
pins: 1 GND (power), 2 ANT (out), 3 CS0 (in), 4 CS1/SS CLK (in), 5 CS2/SS DATA (in), 6 CTS (out), 7 ~{PDN} (in), 8 VCC (power), 9 MODE (in), 10 DATA (in)

## TXM-900-HP3-SPO
designator TR?
Multiple Channel RF Transmitter Module, HP3 Series, 8 Parallel Channels, SMD; PCB_Layout: Pads complies with manufacturer's recommendation.; DatasheetVersion: 28/01/2008; PackageVersion: 28/01/2008; PackageReference: LMD0.63-24L; PackageDescription: RF Module, HP3 Series, SM, 24-Lead, 32 x 15.95 x 3.81 mm Body; ComponentLink1Description: Manufacturer URL; ComponentLink1URL: http://www.linxtechnologies.com/; ComponentLink2Description: Datasheet; ComponentLink2URL: http://www.linxtechnologies.com/Documents/TXM-900-HP3-xxx_Data_Guide.pdf
footprint LMD0.63-24L (LINX MODULE DIP, 0.63", 24 PINS - EXTENDED)
footprint LMD0.63-24L (SMD 24-Lead, Body 32x15.95x3.81mm, Pitch 2.54mm)
part A pins: 1 GND (power), 2 ANT (out), 3 GND (power), 5 CS0 (in), 6 CS1/SS CLK (in), 7 CS2/SS DATA (in), 8 CTS (out), 9 ~{PDN} (in), 10 VCC (power), 11 MODE (in), 12 DATA (in), 13 GND, 20 GND (power)
part B pins: 4 NC, 14 NC, 15 NC, 16 NC, 17 NC, 18 NC, 19 NC, 21 NC, 22 NC, 23 NC, 24 NC

## TXM-900-HP3-SPS
designator TR?
Multiple Channel RF Transmitter Module, HP3 Series, 8 Parallel/100 Serial Channels, SMD; PCB_Layout: Pads complies with manufacturer's recommendation.; DatasheetVersion: 28/01/2008; PackageVersion: 28/01/2008; PackageReference: LMD0.63-24L; PackageDescription: RF Module, HP3 Series, SM, 24-Lead, 32 x 15.95 x 3.81 mm Body; ComponentLink1Description: Manufacturer URL; ComponentLink1URL: http://www.linxtechnologies.com/; ComponentLink2Description: Datasheet; ComponentLink2URL: http://www.linxtechnologies.com/Documents/TXM-900-HP3-xxx_Data_Guide.pdf
footprint LMD0.63-24L (LINX MODULE DIP, 0.63", 24 PINS - EXTENDED)
footprint LMD0.63-24L (SMD 24-Lead, Body 32x15.95x3.81mm, Pitch 2.54mm)
part A pins: 1 GND (power), 2 ANT (out), 3 GND (power), 5 CS0 (in), 6 CS1/SS CLK (in), 7 CS2/SS DATA (in), 8 CTS (out), 9 ~{PDN} (in), 10 VCC (power), 11 MODE (in), 12 DATA (in), 13 GND, 20 GND (power)
part B pins: 4 NC, 14 NC, 15 NC, 16 NC, 17 NC, 18 NC, 19 NC, 21 NC, 22 NC, 23 NC, 24 NC

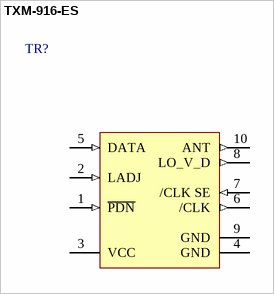
[diagram p2: symbol TXM-916-ES]

## TXM-916-ES
designator TR?
RF Transmitter Module, Digital and Analog, ES Series, 916MHz, SMD; PCB_Layout: Pads complies with manufacturer's recommendation.; DatasheetVersion: 28/01/2008; PackageVersion: 28/01/2008; PackageReference: LMD0.63-10; PackageDescription: RF Module, ES Series, SM, 10-Lead, 12.95 x 16 x 3.18 mm Body; ComponentLink1Description: Manufacturer URL; ComponentLink1URL: http://www.linxtechnologies.com/; ComponentLink2Description: Datasheet; ComponentLink2URL: http://www.linxtechnologies.com/Documents/TXM-xxx-ES_Data_Guide.pdf
footprint LMD0.63-10 (LINX MODULE DIP, 0.63", 10 PINS)
footprint LMD0.63-10 (SMD 10-Lead, Body 12.95x16x3.18mm, Pitch 2.54mm)
pins: 1 ~{PDN} (in), 2 LADJ (in), 3 VCC (power), 4 GND (power), 5 DATA (in), 6 /CLK (out), 7 /CLK SE (in), 8 LO_V_D (out), 9 GND (power), 10 ANT (out)